# EAGLE library part NTJS3157 (library Neel)
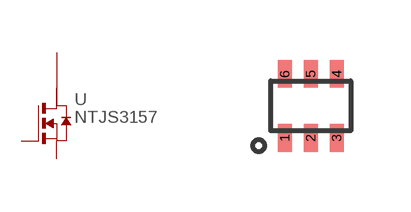
[diagram p50: symbol with the pads of SOT-363; footprint SOT-363]

Designator prefix -

## NTJS3157  [SOT-363]
1  D  pas
2  D1  pas
3  G  pas
4  S  pas
5  D2  pas
6  D3  pas

## Footprint SOT-363 (pad centres in mm)
smd 0.35 x 0.7: 1 -0.65,-0.8; 2 0,-0.8; 3 0.65,-0.8; 4 0.65,0.8; 5 0,0.8; 6 -0.65,0.8